# EAGLE library part RFM69CW-MINIMAL (library kanflo)
HopeRFs RFM69CW with all minimal IO.
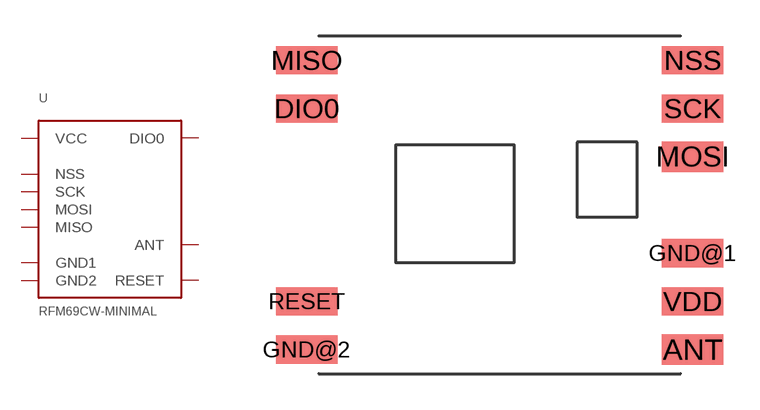
[diagram p11: symbol with the pads of RFM69CW-MINIMAL; footprint RFM69CW-MINIMAL]

Designator prefix U

## RFM69CW-MINIMAL  [RFM69CW-MINIMAL]
ANT  ANT  pas
DIO0  DIO0  oc
GND@1  GND1  pwr
GND@2  GND2  pwr
MISO  MISO  out
MOSI  MOSI  in
NSS  NSS  in
RESET  RESET
SCK  SCK  in
VDD  VCC  pwr

## Footprint RFM69CW-MINIMAL (pad centres in mm)
smd 2.54 x 1.27: ANT 10.9,-6.1; MOSI 10.9,1.9
smd 2.54 x 1.168: DIO0 -5.1,3.9; GND@1 10.9,-2.1; GND@2 -5.1,-6.1; MISO -5.1,5.9; NSS 10.9,5.9; RESET -5.1,-4.1; SCK 10.9,3.9; VDD 10.9,-4.1